# Altium footprint library SOT-233-3L.PcbLib: 1 footprints
Each footprint in its own frame and in the unit in brackets; x right, y up, seen from the top. Pads: shape width x height; smd on the part's side, far side on the other; paste and mask are expansions set on the pad; w line width, h text height; cw(c..) or ccw(c..) is an arc to the next point about the centre after c.
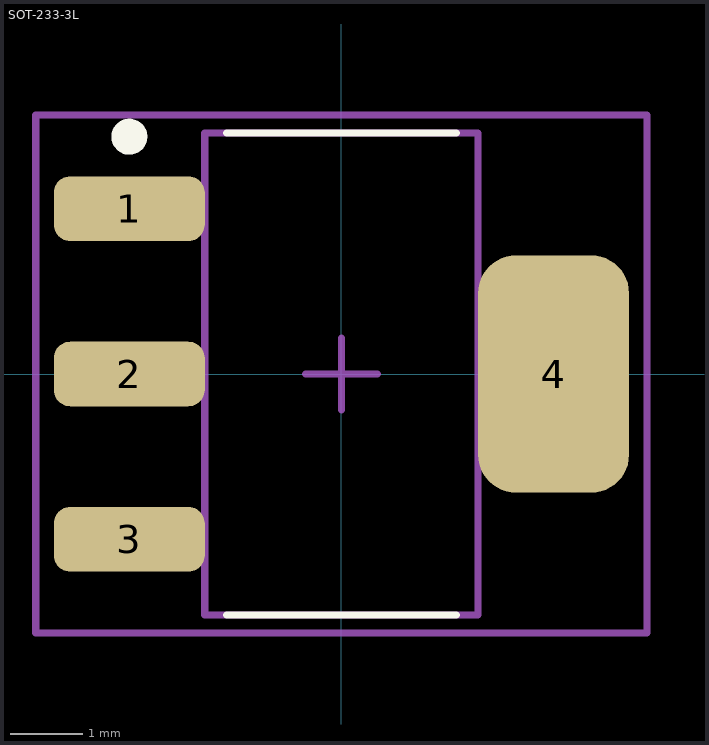
[diagram p0: the footprint, top view; thin cyan lines are the x and y axes]

## SOT-233-3L [mm] "SOT223, 4-Leads, Body 6.30x7.00mm (avg), Pitch 2.30mm, IPC Medium Density"
height 1.75
pads (4):
  rrect50% 2.1x0.9 smd: 1(-2.95,2.3) 2(-2.95,0) 3(-2.95,-2.3)
  rrect50% 2.1x3.3 smd: 4(2.95,0)
Top Overlay:
  circle w0.25: c-2.95,3.3 r0.125
  lines w0.1: -1.6,-3.35 1.6,-3.35 ; -1.6,3.35 1.6,3.35
Top 3D Body:
  lines w0.1: -1.9,-3.35 1.9,-3.35 1.9,3.35 -1.9,3.35 -1.9,-3.35
  text "1" at -1.397,2.032 h1
Top Courtyard:
  lines w0.1: -0.5,0 0.5,0 ; 0,-0.5 0,0.5 ; -4.25,-3.6 4.25,-3.6 4.25,3.6 -4.25,3.6 -4.25,-3.6
Top Designator (Mech29):
  text ".Designator" at 0.333,-4.998 h1
3D body "SOT-233-3L.step": height 1.75, standoff 0, extent -3.5,-3.35 3.5,3.35